# EAGLE library part ADAU1701 (library bardiir)
ADAU1701 SigmaDSP 28-/56-Bit Audio Processor with Two ADCs and Four DACs GENERAL DESCRIPTION The ADAU1701 is a complete single-chip audio system with a 28-/56-bit audio DSP, ADCs, DACs, and microcontroller-like control interfaces. Signal processing includes equalization, cross- over, bass enhancement, multiband dynamics processing, delay compensation, speaker compensation, and stereo image widening. This processing can be used to compensate for real-world limitations of speakers, amplifiers, and listening environments, providing dramatic improvements in perceived audio quality. Its signal processing is comparable to that found in high end studio equipment. Most processing is done in full 56-bit, double precision mode, resulting in very good low level signal perfor- mance. The ADAU1701 is a fully programmable DSP. The easy to use SigmaStudioTM software allows the user to graphically configure a custom signal processing flow using blocks such as biquad filters, dynamics processors, level controls, and GPIO interface controls. ADAU1701 programs can be loaded on power-up either from a serial EEPROM through its own self-boot mechanism or from an external microcontroller. On power-down, the current state of the parameters can be written back to the EEPROM from the ADAU1701 to be recalled the next time the program is run. Two Σ-Δ ADCs and four Σ-Δ DACs provide a 98.5 dB analog input to analog output dynamic. Each ADC has a THD + N of −83 dB, and each DAC has a THD + N of −90 dB. Digital input and output ports allow a glueless connection to additional ADCs and DACs. The ADAU1701 communicates through an I2C® bus or a 4-wire SPI port. FEATURES 28-/56-bit, 50 MIPS digital audio processor 2 ADCs: SNR of 100 dB, THD + N of −83 dB 4 DACs: SNR of 104 dB, THD + N of −90 dB Complete standalone operation Self-boot from serial EEPROM Auxiliary ADC with 4-input mux for analog control GPIOs for digital controls and outputs Fully programmable with SigmaStudio graphical tool 28-bit × 28-bit multiplier with 56-bit accumulator for full double-precision processing Clock oscillator for generating a master clock from crystal PLL for generating master clock from 64 × fS, 256 × fS, 384 × fS, or 512 × fS clocks Flexible serial data input/output ports with I2S-compatible, left-justified, right-justified, and TDM modes Sampling rates of up to 192 kHz are supported On-chip voltage regulator for compatibility with 3.3 V systems 48-lead, plastic LQFP APPLICATIONS Multimedia speaker systems MP3 player speaker docks Automotive head units Minicomponent stereos Digital televisions Studio monitors Speaker crossovers Musical instrument effects processors In-seat sound systems (aircraft/motor coaches)
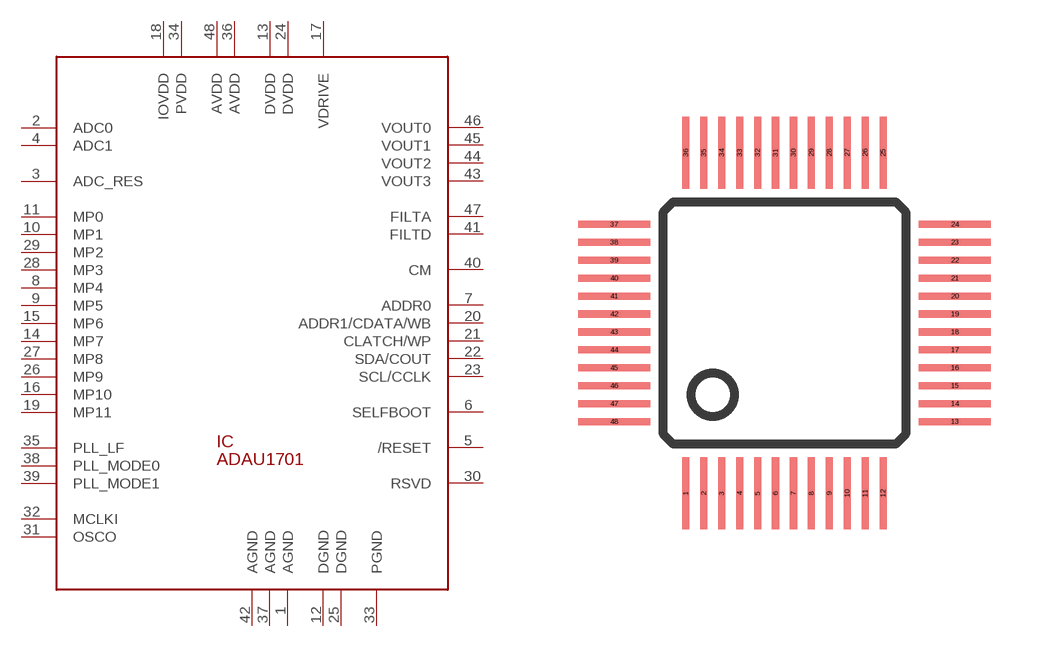
[diagram p0: symbol with the pads of LQFP-48; footprint LQFP-48]

Designator prefix IC

## ADAU1701JSTZ (VALUE: ADAU1701)  [LQFP-48]
1  AGND
2  ADC0
3  ADC_RES
4  ADC1
5  /RESET
6  SELFBOOT
7  ADDR0
8  MP4
9  MP5
10  MP1
11  MP0
12  DGND
13  DVDD
14  MP7
15  MP6
16  MP10
17  VDRIVE
18  IOVDD
19  MP11
20  ADDR1/CDATA/WB
21  CLATCH/WP
22  SDA/COUT
23  SCL/CCLK
24  DVDD
25  DGND
26  MP9
27  MP8
28  MP3
29  MP2
30  RSVD
31  OSCO
32  MCLKI
33  PGND
34  PVDD
35  PLL_LF
36  AVDD
37  AGND
38  PLL_MODE0
39  PLL_MODE1
40  CM
41  FILTD
42  AGND
43  VOUT3
44  VOUT2
45  VOUT1
46  VOUT0
47  FILTA
48  AVDD

## Footprint LQFP-48 (pad centres in mm)
smd 0.2 x 2: 1 -2.75,-4.75; 2 -2.25,-4.75; 3 -1.75,-4.75; 4 -1.25,-4.75; 5 -0.75,-4.75; 6 -0.25,-4.75; 7 0.25,-4.75; 8 0.75,-4.75; 9 1.25,-4.75; 10 1.75,-4.75; 11 2.25,-4.75; 12 2.75,-4.75; 25 2.75,4.75; 26 2.25,4.75; 27 1.75,4.75; 28 1.25,4.75; 29 0.75,4.75; 30 0.25,4.75; 31 -0.25,4.75; 32 -0.75,4.75; 33 -1.25,4.75; 34 -1.75,4.75; 35 -2.25,4.75; 36 -2.75,4.75
smd 2 x 0.2: 13 4.75,-2.75; 14 4.75,-2.25; 15 4.75,-1.75; 16 4.75,-1.25; 17 4.75,-0.75; 18 4.75,-0.25; 19 4.75,0.25; 20 4.75,0.75; 21 4.75,1.25; 22 4.75,1.75; 23 4.75,2.25; 24 4.75,2.75; 37 -4.75,2.75; 38 -4.75,2.25; 39 -4.75,1.75; 40 -4.75,1.25; 41 -4.75,0.75; 42 -4.75,0.25; 43 -4.75,-0.25; 44 -4.75,-0.75; 45 -4.75,-1.25; 46 -4.75,-1.75; 47 -4.75,-2.25; 48 -4.75,-2.75